# EAGLE library part JCK20 (library @Club_convertisseurs_CC_CC)
XP Power JCK 20 20 W, 2:1 input range isolated DC/DC converter module with remote on/off and trimmable or bipolar output. Several input ranges and output voltages.
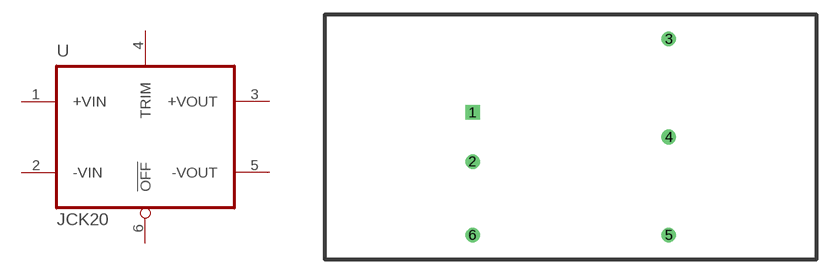
[diagram p3: symbol with the pads of TE*-1"X2"; footprint TE*-1"X2"]

Designator prefix U

## JCK20  [TE*-1"X2"]
1  +VIN  pwr
2  -VIN  pwr
3  +VOUT  out
4  TRIM  in
5  -VOUT  out
6  !OFF  in

## Footprint TE*-1"X2" (pad centres in mm)
TEL*-1"x2" 1"x2" footprint for 10-20W isolated DC/DC modules from Traco Power TEL/TEN ranges and equivalent
drill 1 square: 1 -10.16,2.54
drill 1: 2 -10.16,-2.54; 3 10.16,10.16; 4 10.16,0; 5 10.16,-10.16; 6 -10.16,-10.16